# Altium schematic symbol library 74LVC1G157GV,125.SchLib: 1 symbol
Pins are listed as number, name and electrical type; pins without a type are passive.

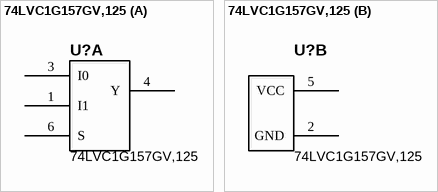
[diagram p0: symbol 74LVC1G157GV,125]

## 74LVC1G157GV,125
designator U?
Multiplexer 1 x 2:1 6-TSOP; Manufacturer: Nexperia; Flags: NAN; Value: 74LVC1G157GV,125; Manufacturer Part Number: 74LVC1G157GV,125; JLCPCB Part #: C503437; Internal Part Number: NAN
footprint SOT95P245X145-6L
part A pins: 1 I1, 3 I0, 4 Y, 6 S
part B pins: 2 GND, 5 VCC